# Altium footprint library Embedded.PcbLib: 6 footprints (part 2 of 2)
Each footprint in its own frame and in the unit in brackets; x right, y up, seen from the top. Pads: shape width x height; smd on the part's side, far side on the other; paste and mask are expansions set on the pad; w line width, h text height; cw(c..) or ccw(c..) is an arc to the next point about the centre after c.
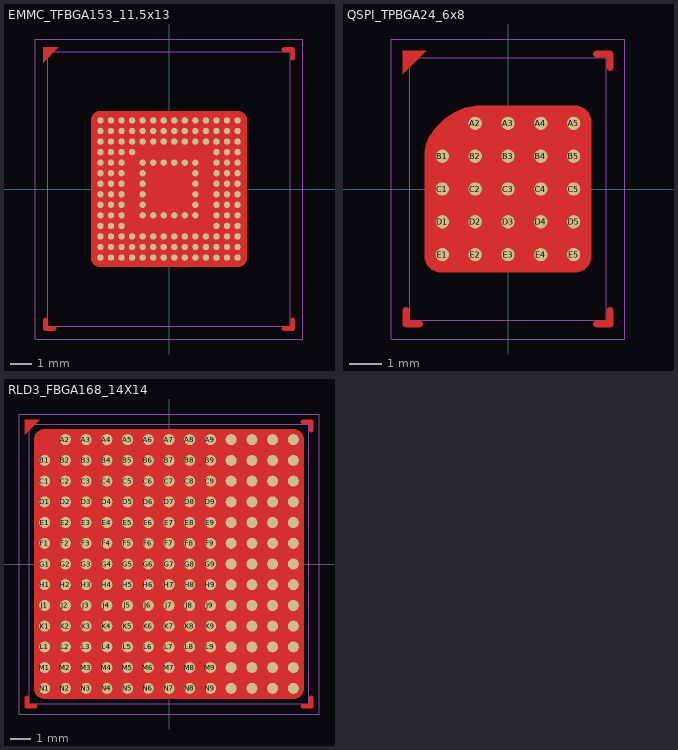
[diagram p1: the footprints below, top view; thin cyan lines are the x and y axes]

## EMMC_TFBGA153_11.5x13 [mil]
pads (153):
  round 12 smd mask+1.5: A1(-127.95,127.95) A2(-108.27,127.95) A3(-88.58,127.95) A4(-68.9,127.95) A5(-49.21,127.95) A6(-29.53,127.95) A7(-9.84,127.95) A8(9.84,127.95) A9(29.53,127.95) A10(49.21,127.95) A11(68.9,127.95) A12(88.58,127.95) A13(108.27,127.95) A14(127.95,127.95) B1(-127.95,108.27) B2(-108.27,108.27) B3(-88.58,108.27) B4(-68.9,108.27) B5(-49.21,108.27) B6(-29.53,108.27) B7(-9.84,108.27) B8(9.84,108.27) B9(29.53,108.27) B10(49.21,108.27) B11(68.9,108.27) B12(88.58,108.27) B13(108.27,108.27) B14(127.95,108.27) C1(-127.95,88.58) C2(-108.27,88.58) C3(-88.58,88.58) C4(-68.9,88.58) C5(-49.21,88.58) C6(-29.53,88.58) C7(-9.84,88.58) C8(9.84,88.58) C9(29.53,88.58) C10(49.21,88.58) C11(68.9,88.58) C12(88.58,88.58) C13(108.27,88.58) C14(127.95,88.58) D1(-127.95,68.9) D2(-108.27,68.9) D3(-88.58,68.9) D4(-68.9,68.9) D12(88.58,68.9) D13(108.27,68.9) D14(127.95,68.9) E1(-127.95,49.21) E2(-108.27,49.21) E3(-88.58,49.21) E5(-49.21,49.21) E6(-29.53,49.21) E7(-9.84,49.21) E8(9.84,49.21) E9(29.53,49.21) E10(49.21,49.21) E12(88.58,49.21) E13(108.27,49.21) E14(127.95,49.21) F1(-127.95,29.53) F2(-108.27,29.53) F3(-88.58,29.53) F5(-49.21,29.53) F10(49.21,29.53) F12(88.58,29.53) F13(108.27,29.53) F14(127.95,29.53) G1(-127.95,9.84) G2(-108.27,9.84) G3(-88.58,9.84) G5(-49.21,9.84) G10(49.21,9.84) G12(88.58,9.84) G13(108.27,9.84) G14(127.95,9.84) H1(-127.95,-9.84) H2(-108.27,-9.84) H3(-88.58,-9.84) H5(-49.21,-9.84) H10(49.21,-9.84) H12(88.58,-9.84) H13(108.27,-9.84) H14(127.95,-9.84) J1(-127.95,-29.53) J2(-108.27,-29.53) J3(-88.58,-29.53) J5(-49.21,-29.53) J10(49.21,-29.53) J12(88.58,-29.53) J13(108.27,-29.53) J14(127.95,-29.53) K1(-127.95,-49.21) K2(-108.27,-49.21) K3(-88.58,-49.21) K5(-49.21,-49.21) K6(-29.53,-49.21) K7(-9.84,-49.21) K8(9.84,-49.21) K9(29.53,-49.21) K10(49.21,-49.21) K12(88.58,-49.21) K13(108.27,-49.21) K14(127.95,-49.21) L1(-127.95,-68.9) L2(-108.27,-68.9) L3(-88.58,-68.9) L12(88.58,-68.9) L13(108.27,-68.9) L14(127.95,-68.9) M1(-127.95,-88.58) M2(-108.27,-88.58) M3(-88.58,-88.58) M4(-68.9,-88.58) M5(-49.21,-88.58) M6(-29.53,-88.58) M7(-9.84,-88.58) M8(9.84,-88.58) M9(29.53,-88.58) M10(49.21,-88.58) M11(68.9,-88.58) M12(88.58,-88.58) M13(108.27,-88.58) M14(127.95,-88.58) N1(-127.95,-108.27) N2(-108.27,-108.27) N3(-88.58,-108.27) N4(-68.9,-108.27) N5(-49.21,-108.27) N6(-29.53,-108.27) N7(-9.84,-108.27) N8(9.84,-108.27) N9(29.53,-108.27) N10(49.21,-108.27) N11(68.9,-108.27) N12(88.58,-108.27) N13(108.27,-108.27) N14(127.95,-108.27) P1(-127.95,-127.95) P2(-108.27,-127.95) P3(-88.58,-127.95) P4(-68.9,-127.95) P5(-49.21,-127.95) P6(-29.53,-127.95) P7(-9.84,-127.95) P8(9.84,-127.95) P9(29.53,-127.95) P10(49.21,-127.95) P11(68.9,-127.95) P12(88.58,-127.95) P13(108.27,-127.95) P14(127.95,-127.95)
Top Layer:
  pour cut-out: -130,145 -132.98,145 -138.5,142.72 -142.72,138.5 -145,132.98 -145,130 -145,-130 -145,-132.98 -142.72,-138.5 -138.5,-142.72 -132.98,-145 -130,-145 130,-145 132.98,-145 138.5,-142.72 142.72,-138.5 145,-132.98 145,-130 145,130 145,132.98 142.72,138.5 138.5,142.72 132.98,145 130,145
  region: -234.84,264.37 -234.84,235.83 -206.3,264.37
  region: 226.84,244.37 226.84,243.57 227.45,242.1 228.58,240.98 230.05,240.37 230.84,240.37 231.64,240.37 233.11,240.98 234.23,242.1 234.84,243.57 234.84,244.37 234.84,260.37 234.84,261.17 234.23,262.64 233.11,263.76 231.64,264.37 230.84,264.37 214.84,264.37 214.05,264.37 212.58,263.76 211.45,262.64 210.84,261.17 210.84,260.37 210.84,259.57 211.45,258.1 212.58,256.98 214.05,256.37 214.84,256.37 224.84,256.37 225.23,256.33 225.95,256.03 226.51,255.48 226.8,254.76 226.84,254.37
  region: -226.84,-244.37 -226.84,-243.57 -227.45,-242.1 -228.58,-240.98 -230.05,-240.37 -230.84,-240.37 -231.64,-240.37 -233.11,-240.98 -234.23,-242.1 -234.84,-243.57 -234.84,-244.37 -234.84,-260.37 -234.84,-261.17 -234.23,-262.64 -233.11,-263.76 -231.64,-264.37 -230.84,-264.37 -214.84,-264.37 -214.05,-264.37 -212.58,-263.76 -211.45,-262.64 -210.84,-261.17 -210.84,-260.37 -210.84,-259.57 -211.45,-258.1 -212.58,-256.98 -214.05,-256.37 -214.84,-256.37 -224.84,-256.37 -225.23,-256.33 -225.95,-256.03 -226.51,-255.48 -226.8,-254.76 -226.84,-254.37
  region: 214.84,-256.37 214.05,-256.37 212.58,-256.98 211.45,-258.1 210.84,-259.57 210.84,-260.37 210.84,-261.17 211.45,-262.64 212.58,-263.76 214.05,-264.37 214.84,-264.37 230.84,-264.37 231.64,-264.37 233.11,-263.76 234.23,-262.64 234.84,-261.17 234.84,-260.37 234.84,-244.37 234.84,-243.57 234.23,-242.1 233.11,-240.98 231.64,-240.37 230.84,-240.37 230.05,-240.37 228.58,-240.98 227.45,-242.1 226.84,-243.57 226.84,-244.37 226.84,-254.37 226.8,-254.76 226.51,-255.48 225.95,-256.03 225.23,-256.33 224.84,-256.37
Top Component Outline:
  lines w1: -250,-280 250,-280 250,280 -250,280 -250,-280
Top 3D Body (Mech16):
  lines w1: -226.38,-255.91 226.38,-255.91 226.38,255.91 -226.38,255.91 -226.38,-255.91
3D body: height 51.18, standoff 7.87, extent -226.38,-255.91 226.38,255.91
3D body: height 11, standoff -1, extent 43.31,-133.76 55.12,-122.12
3D body: height 11, standoff -1, extent 43.31,-114.08 55.12,-102.44
3D body: height 11, standoff -1, extent 43.31,-94.39 55.12,-82.75
3D body: height 11, standoff -1, extent 43.3,122.12 55.12,133.76
3D body: height 11, standoff -1, extent 43.3,102.44 55.12,114.08
3D body: height 11, standoff -1, extent 43.3,82.75 55.12,94.39
3D body: height 11, standoff -1, extent -133.86,122.12 -122.05,133.76
3D body: height 11, standoff -1, extent -133.86,102.44 -122.05,114.08
3D body: height 11, standoff -1, extent -133.86,82.75 -122.05,94.39
3D body: height 11, standoff -1, extent -133.86,23.7 -122.05,35.34
3D body: height 11, standoff -1, extent -133.86,43.38 -122.05,55.02
3D body: height 11, standoff -1, extent -133.86,63.07 -122.05,74.71
3D body: height 11, standoff -1, extent -133.86,4.01 -122.05,15.65
3D body: height 11, standoff -1, extent -133.86,-15.67 -122.05,-4.03
3D body: height 11, standoff -1, extent -133.86,-35.36 -122.05,-23.72
3D body: height 11, standoff -1, extent -133.86,-94.41 -122.05,-82.77
3D body: height 11, standoff -1, extent -133.86,-74.73 -122.05,-63.09
3D body: height 11, standoff -1, extent -133.86,-55.04 -122.05,-43.4
3D body: height 11, standoff -1, extent -133.86,-114.1 -122.05,-102.46
3D body: height 11, standoff -1, extent -133.86,-133.78 -122.05,-122.14
3D body: height 11, standoff -1, extent -114.18,122.12 -102.36,133.76
3D body: height 11, standoff -1, extent -114.18,102.44 -102.36,114.08
3D body: height 11, standoff -1, extent -114.18,82.75 -102.36,94.39
3D body: height 11, standoff -1, extent -114.18,23.7 -102.36,35.34
3D body: height 11, standoff -1, extent -114.18,43.38 -102.36,55.02
3D body: height 11, standoff -1, extent -114.18,63.07 -102.36,74.71
3D body: height 11, standoff -1, extent -114.18,4.01 -102.36,15.65
3D body: height 11, standoff -1, extent -114.18,-15.67 -102.36,-4.03
3D body: height 11, standoff -1, extent -114.18,-35.36 -102.36,-23.72
3D body: height 11, standoff -1, extent -114.18,-94.41 -102.36,-82.77
3D body: height 11, standoff -1, extent -114.18,-74.73 -102.36,-63.09
3D body: height 11, standoff -1, extent -114.18,-55.04 -102.36,-43.4
3D body: height 11, standoff -1, extent -114.18,-114.1 -102.36,-102.46
3D body: height 11, standoff -1, extent -114.18,-133.78 -102.36,-122.14
3D body: height 11, standoff -1, extent -94.49,122.12 -82.68,133.76
3D body: height 11, standoff -1, extent -94.49,102.44 -82.68,114.08
3D body: height 11, standoff -1, extent -94.49,82.75 -82.68,94.39
3D body: height 11, standoff -1, extent -94.49,23.7 -82.68,35.34
3D body: height 11, standoff -1, extent -94.49,43.38 -82.68,55.02
3D body: height 11, standoff -1, extent -94.49,63.07 -82.68,74.71
3D body: height 11, standoff -1, extent -94.49,4.01 -82.68,15.65
3D body: height 11, standoff -1, extent -94.49,-15.67 -82.68,-4.03
3D body: height 11, standoff -1, extent -94.49,-35.36 -82.68,-23.72
3D body: height 11, standoff -1, extent -94.49,-94.41 -82.68,-82.77
3D body: height 11, standoff -1, extent -94.49,-74.73 -82.68,-63.09
3D body: height 11, standoff -1, extent -94.49,-55.04 -82.68,-43.4
3D body: height 11, standoff -1, extent -94.49,-114.1 -82.68,-102.46
3D body: height 11, standoff -1, extent -94.49,-133.78 -82.68,-122.14
3D body: height 11, standoff -1, extent -74.81,122.12 -62.99,133.76
3D body: height 11, standoff -1, extent -74.81,102.44 -62.99,114.08
3D body: height 11, standoff -1, extent -74.81,82.75 -62.99,94.39
3D body: height 11, standoff -1, extent -74.81,63.07 -62.99,74.71
3D body: height 11, standoff -1, extent -74.81,-94.41 -62.99,-82.77
3D body: height 11, standoff -1, extent -74.81,-114.1 -62.99,-102.46
3D body: height 11, standoff -1, extent -74.81,-133.78 -62.99,-122.14
3D body: height 11, standoff -1, extent -55.12,122.12 -43.31,133.76
3D body: height 11, standoff -1, extent -55.12,102.44 -43.31,114.08
3D body: height 11, standoff -1, extent -55.12,82.75 -43.31,94.39
3D body: height 11, standoff -1, extent -55.12,23.7 -43.31,35.34
3D body: height 11, standoff -1, extent -55.12,43.38 -43.31,55.02
3D body: height 11, standoff -1, extent -55.12,4.01 -43.31,15.65
3D body: height 11, standoff -1, extent -55.12,-15.67 -43.31,-4.03
3D body: height 11, standoff -1, extent -55.12,-35.36 -43.31,-23.72
3D body: height 11, standoff -1, extent -55.12,-94.41 -43.31,-82.77
3D body: height 11, standoff -1, extent -55.12,-55.04 -43.31,-43.4
3D body: height 11, standoff -1, extent -55.12,-114.1 -43.31,-102.46
3D body: height 11, standoff -1, extent -55.12,-133.78 -43.31,-122.14
3D body: height 11, standoff -1, extent -35.44,122.12 -23.62,133.76
3D body: height 11, standoff -1, extent -35.44,102.44 -23.62,114.08
3D body: height 11, standoff -1, extent -35.44,82.75 -23.62,94.39
3D body: height 11, standoff -1, extent -35.44,43.38 -23.62,55.02
3D body: height 11, standoff -1, extent -35.44,-94.41 -23.62,-82.77
3D body: height 11, standoff -1, extent -35.44,-55.04 -23.62,-43.4
3D body: height 11, standoff -1, extent -35.44,-114.1 -23.62,-102.46
3D body: height 11, standoff -1, extent -35.44,-133.78 -23.62,-122.14
3D body: height 11, standoff -1, extent -15.75,122.12 -3.94,133.76
3D body: height 11, standoff -1, extent -15.75,102.44 -3.94,114.08
3D body: height 11, standoff -1, extent -15.75,82.75 -3.94,94.39
3D body: height 11, standoff -1, extent -15.75,43.38 -3.94,55.02
3D body: height 11, standoff -1, extent -15.75,-94.41 -3.94,-82.77
3D body: height 11, standoff -1, extent -15.75,-55.04 -3.94,-43.4
3D body: height 11, standoff -1, extent -15.75,-114.1 -3.94,-102.46
3D body: height 11, standoff -1, extent -15.75,-133.78 -3.94,-122.14
3D body: height 11, standoff -1, extent 3.93,122.12 15.75,133.76
3D body: height 11, standoff -1, extent 3.93,102.44 15.75,114.08
3D body: height 11, standoff -1, extent 3.93,82.75 15.75,94.39
3D body: height 11, standoff -1, extent 3.93,43.38 15.75,55.02
3D body: height 11, standoff -1, extent 3.93,-94.41 15.75,-82.77
3D body: height 11, standoff -1, extent 3.93,-55.04 15.75,-43.4
3D body: height 11, standoff -1, extent 3.93,-114.1 15.75,-102.46
3D body: height 11, standoff -1, extent 3.93,-133.78 15.75,-122.14
3D body: height 11, standoff -1, extent 23.62,122.12 35.43,133.76
3D body: height 11, standoff -1, extent 23.62,102.44 35.43,114.08
3D body: height 11, standoff -1, extent 23.62,82.75 35.43,94.39
3D body: height 11, standoff -1, extent 23.62,43.38 35.43,55.02
3D body: height 11, standoff -1, extent 23.62,-94.41 35.43,-82.77
3D body: height 11, standoff -1, extent 23.62,-55.04 35.43,-43.4
3D body: height 11, standoff -1, extent 23.62,-114.1 35.43,-102.46
3D body: height 11, standoff -1, extent 23.62,-133.78 35.43,-122.14
3D body: height 11, standoff -1, extent 62.99,122.12 74.8,133.76
3D body: height 11, standoff -1, extent 62.99,102.44 74.8,114.08
3D body: height 11, standoff -1, extent 62.99,82.75 74.8,94.39
3D body: height 11, standoff -1, extent 62.99,-94.41 74.8,-82.77
3D body: height 11, standoff -1, extent 62.99,-114.1 74.8,-102.46
3D body: height 11, standoff -1, extent 62.99,-133.78 74.8,-122.14
3D body: height 11, standoff -1, extent 82.67,122.12 94.49,133.76
3D body: height 11, standoff -1, extent 82.67,102.44 94.49,114.08
3D body: height 11, standoff -1, extent 82.67,82.75 94.49,94.39
3D body: height 11, standoff -1, extent 82.67,23.7 94.49,35.34
3D body: height 11, standoff -1, extent 82.67,43.38 94.49,55.02
3D body: height 11, standoff -1, extent 82.67,63.07 94.49,74.71
3D body: height 11, standoff -1, extent 82.67,4.01 94.49,15.65
3D body: height 11, standoff -1, extent 82.67,-15.67 94.49,-4.03
3D body: height 11, standoff -1, extent 82.67,-35.36 94.49,-23.72
3D body: height 11, standoff -1, extent 82.67,-94.41 94.49,-82.77
3D body: height 11, standoff -1, extent 82.67,-74.73 94.49,-63.09
3D body: height 11, standoff -1, extent 82.67,-55.04 94.49,-43.4
3D body: height 11, standoff -1, extent 82.67,-114.1 94.49,-102.46
3D body: height 11, standoff -1, extent 82.67,-133.78 94.49,-122.14
3D body: height 11, standoff -1, extent 102.36,122.12 114.17,133.76
3D body: height 11, standoff -1, extent 102.36,102.44 114.17,114.08
3D body: height 11, standoff -1, extent 102.36,82.75 114.17,94.39
3D body: height 11, standoff -1, extent 102.36,23.7 114.17,35.34
3D body: height 11, standoff -1, extent 102.36,43.38 114.17,55.02
3D body: height 11, standoff -1, extent 102.36,63.07 114.17,74.71
3D body: height 11, standoff -1, extent 102.36,4.01 114.17,15.65
3D body: height 11, standoff -1, extent 102.36,-15.67 114.17,-4.03
3D body: height 11, standoff -1, extent 102.36,-35.36 114.17,-23.72
3D body: height 11, standoff -1, extent 102.36,-94.41 114.17,-82.77
3D body: height 11, standoff -1, extent 102.36,-74.73 114.17,-63.09
3D body: height 11, standoff -1, extent 102.36,-55.04 114.17,-43.4
3D body: height 11, standoff -1, extent 102.36,-114.1 114.17,-102.46
3D body: height 11, standoff -1, extent 102.36,-133.78 114.17,-122.14
3D body: height 11, standoff -1, extent 122.04,-133.78 133.86,-122.14
3D body: height 11, standoff -1, extent 122.04,-114.1 133.86,-102.46
3D body: height 11, standoff -1, extent 122.04,-55.04 133.86,-43.4
3D body: height 11, standoff -1, extent 122.04,-74.73 133.86,-63.09
3D body: height 11, standoff -1, extent 122.04,-94.41 133.86,-82.77
3D body: height 11, standoff -1, extent 122.04,-35.36 133.86,-23.72
3D body: height 11, standoff -1, extent 122.04,-15.67 133.86,-4.03
3D body: height 11, standoff -1, extent 122.04,4.01 133.86,15.65
3D body: height 11, standoff -1, extent 122.04,63.07 133.86,74.71
3D body: height 11, standoff -1, extent 122.04,43.38 133.86,55.02
3D body: height 11, standoff -1, extent 122.04,23.7 133.86,35.34
3D body: height 11, standoff -1, extent 122.04,82.75 133.86,94.39
3D body: height 11, standoff -1, extent 122.04,102.44 133.86,114.08
3D body: height 11, standoff -1, extent 122.04,122.12 133.86,133.76
3D body: height 11, standoff -1, extent 43.3,43.38 55.12,55.02
3D body: height 11, standoff -1, extent 43.3,23.7 55.12,35.34
3D body: height 11, standoff -1, extent 43.3,4.01 55.12,15.65
3D body: height 11, standoff -1, extent 43.3,-55.04 55.12,-43.4
3D body: height 11, standoff -1, extent 43.3,-35.36 55.12,-23.72
3D body: height 11, standoff -1, extent 43.3,-15.67 55.12,-4.03

## QSPI_TPBGA24_6x8 [mil]
pads (24):
  round 16 smd mask+2: A2(-39.37,78.74) A3(0,78.74) A4(39.37,78.74) A5(78.74,78.74) B1(-78.74,39.37) B2(-39.37,39.37) B3(0,39.37) B4(39.37,39.37) B5(78.74,39.37) C1(-78.74,0) C2(-39.37,0) C3(0,0) C4(39.37,0) C5(78.74,0) D1(-78.74,-39.37) D2(-39.37,-39.37) D3(0,-39.37) D4(39.37,-39.37) D5(78.74,-39.37) E1(-78.74,-78.74) E2(-39.37,-78.74) E3(0,-78.74) E4(39.37,-78.74) E5(78.74,-78.74)
Top Layer:
  region: -126.57,165.94 -126.57,137.4 -98.03,165.95
  pour cut-out: 80,100 83.98,100 91.33,96.96 96.96,91.33 100,83.98 100,80 100,-80 100,-83.98 96.96,-91.33 91.33,-96.96 83.98,-100 80,-100 -80,-100 -83.98,-100 -91.33,-96.96 -96.96,-91.33 -100,-83.98 -100,-80 -100,40 -100,44.76 -98.14,54.08 -94.5,62.87 -89.22,70.78 -85.86,74.14 -80,80 -75.24,84.76 -64.06,92.23 -51.63,97.38 -38.44,100 -31.72,100
  region: 118.57,145.94 118.57,145.15 119.18,143.68 120.31,142.55 121.78,141.94 122.57,141.94 123.37,141.94 124.84,142.55 125.97,143.68 126.57,145.15 126.57,145.94 126.57,161.94 126.57,162.74 125.97,164.21 124.84,165.34 123.37,165.94 122.57,165.94 106.57,165.94 105.78,165.94 104.31,165.34 103.18,164.21 102.57,162.74 102.57,161.94 102.57,161.15 103.18,159.68 104.31,158.55 105.78,157.94 106.57,157.94 116.57,157.94 116.96,157.91 117.69,157.61 118.24,157.06 118.54,156.34 118.57,155.94
  region: 106.58,-157.94 105.78,-157.94 104.31,-158.55 103.18,-159.68 102.58,-161.15 102.58,-161.94 102.58,-162.74 103.18,-164.21 104.31,-165.34 105.78,-165.94 106.58,-165.94 122.58,-165.94 123.37,-165.94 124.84,-165.34 125.97,-164.21 126.58,-162.74 126.58,-161.94 126.58,-145.94 126.58,-145.15 125.97,-143.68 124.84,-142.55 123.37,-141.94 122.58,-141.94 121.78,-141.94 120.31,-142.55 119.18,-143.68 118.58,-145.15 118.58,-145.94 118.58,-155.94 118.54,-156.33 118.24,-157.06 117.69,-157.61 116.97,-157.91 116.58,-157.94
  region: -118.57,-145.94 -118.57,-145.15 -119.18,-143.68 -120.31,-142.55 -121.78,-141.94 -122.57,-141.94 -123.37,-141.94 -124.84,-142.55 -125.97,-143.68 -126.57,-145.15 -126.57,-145.94 -126.57,-161.94 -126.57,-162.74 -125.97,-164.21 -124.84,-165.34 -123.37,-165.94 -122.57,-165.94 -106.57,-165.94 -105.78,-165.94 -104.31,-165.34 -103.18,-164.21 -102.57,-162.74 -102.57,-161.94 -102.57,-161.15 -103.18,-159.68 -104.31,-158.55 -105.78,-157.94 -106.57,-157.94 -116.57,-157.94 -116.96,-157.91 -117.69,-157.61 -118.24,-157.06 -118.54,-156.33 -118.57,-155.94
Top Component Outline:
  lines w1: -140,-180 140,-180 140,180 -140,180 -140,-180
Top 3D Body (Mech16):
  lines w1: -118.11,-157.48 118.11,-157.48 118.11,157.48 -118.11,157.48 -118.11,-157.48
3D body: height 43.31, standoff 11.81, extent -118.11,-157.48 118.11,157.48
3D body: height 13.78, standoff -1.97, extent 70.98,-86.74 86.49,-71.02
3D body: height 13.78, standoff -1.97, extent 70.98,-47.37 86.49,-31.65
3D body: height 13.78, standoff -1.97, extent 70.98,-8 86.49,7.72
3D body: height 13.78, standoff -1.97, extent 70.98,31.37 86.49,47.09
3D body: height 13.78, standoff -1.97, extent 70.98,70.74 86.49,86.46
3D body: height 13.78, standoff -1.97, extent 31.61,70.74 47.12,86.46
3D body: height 13.78, standoff -1.97, extent 31.61,31.37 47.12,47.09
3D body: height 13.78, standoff -1.97, extent 31.61,-8 47.12,7.72
3D body: height 13.78, standoff -1.97, extent 31.61,-47.37 47.12,-31.65
3D body: height 13.78, standoff -1.97, extent 31.61,-86.74 47.12,-71.02
3D body: height 13.78, standoff -1.97, extent -7.76,70.74 7.75,86.46
3D body: height 13.78, standoff -1.97, extent -7.76,31.37 7.75,47.09
3D body: height 13.78, standoff -1.97, extent -7.76,-8 7.75,7.72
3D body: height 13.78, standoff -1.97, extent -7.76,-47.37 7.75,-31.65
3D body: height 13.78, standoff -1.97, extent -7.76,-86.74 7.75,-71.02
3D body: height 13.78, standoff -1.97, extent -47.13,70.74 -31.62,86.46
3D body: height 13.78, standoff -1.97, extent -47.13,31.37 -31.62,47.09
3D body: height 13.78, standoff -1.97, extent -47.13,-8 -31.62,7.72
3D body: height 13.78, standoff -1.97, extent -47.13,-47.37 -31.62,-31.65
3D body: height 13.78, standoff -1.97, extent -47.13,-86.74 -31.62,-71.02
3D body: height 13.78, standoff -1.97, extent -86.5,31.37 -70.99,47.09
3D body: height 13.78, standoff -1.97, extent -86.5,-8 -70.99,7.72
3D body: height 13.78, standoff -1.97, extent -86.5,-47.37 -70.99,-31.65
3D body: height 13.78, standoff -1.97, extent -86.5,-86.74 -70.99,-71.02

## RLD3_FBGA168_14X14 [mil] "RLDRAM3"
height 43.31
pads (168):
  round 21 smd mask+2: A2(-196.85,236.22) A3(-157.48,236.22) A4(-118.11,236.22) A5(-78.74,236.22) A6(-39.37,236.22) A7(0,236.22) A8(39.37,236.22) A9(78.74,236.22) A10(118.11,236.22) A11(157.48,236.22) A12(196.85,236.22) A13(236.22,236.22) B1(-236.22,196.85) B2(-196.85,196.85) B3(-157.48,196.85) B4(-118.11,196.85) B5(-78.74,196.85) B6(-39.37,196.85) B7(0,196.85) B8(39.37,196.85) B9(78.74,196.85) B10(118.11,196.85) B11(157.48,196.85) B12(196.85,196.85) B13(236.22,196.85) C1(-236.22,157.48) C2(-196.85,157.48) C3(-157.48,157.48) C4(-118.11,157.48) C5(-78.74,157.48) C6(-39.37,157.48) C7(0,157.48) C8(39.37,157.48) C9(78.74,157.48) C10(118.11,157.48) C11(157.48,157.48) C12(196.85,157.48) C13(236.22,157.48) D1(-236.22,118.11) D2(-196.85,118.11) D3(-157.48,118.11) D4(-118.11,118.11) D5(-78.74,118.11) D6(-39.37,118.11) D7(0,118.11) D8(39.37,118.11) D9(78.74,118.11) D10(118.11,118.11) D11(157.48,118.11) D12(196.85,118.11) D13(236.22,118.11) E1(-236.22,78.74) E2(-196.85,78.74) E3(-157.48,78.74) E4(-118.11,78.74) E5(-78.74,78.74) E6(-39.37,78.74) E7(0,78.74) E8(39.37,78.74) E9(78.74,78.74) E10(118.11,78.74) E11(157.48,78.74) E12(196.85,78.74) E13(236.22,78.74) F1(-236.22,39.37) F2(-196.85,39.37) F3(-157.48,39.37) F4(-118.11,39.37) F5(-78.74,39.37) F6(-39.37,39.37) F7(0,39.37) F8(39.37,39.37) F9(78.74,39.37) F10(118.11,39.37) F11(157.48,39.37) F12(196.85,39.37) F13(236.22,39.37) G1(-236.22,0) G2(-196.85,0) G3(-157.48,0) G4(-118.11,0) G5(-78.74,0) G6(-39.37,0) G7(0,0) G8(39.37,0) G9(78.74,0) G10(118.11,0) G11(157.48,0) G12(196.85,0) G13(236.22,0) H1(-236.22,-39.37) H2(-196.85,-39.37) H3(-157.48,-39.37) H4(-118.11,-39.37) H5(-78.74,-39.37) H6(-39.37,-39.37) H7(0,-39.37) H8(39.37,-39.37) H9(78.74,-39.37) H10(118.11,-39.37) H11(157.48,-39.37) H12(196.85,-39.37) H13(236.22,-39.37) J1(-236.22,-78.74) J2(-196.85,-78.74) J3(-157.48,-78.74) J4(-118.11,-78.74) J5(-78.74,-78.74) J6(-39.37,-78.74) J7(0,-78.74) J8(39.37,-78.74) J9(78.74,-78.74) J10(118.11,-78.74) J11(157.48,-78.74) J12(196.85,-78.74) J13(236.22,-78.74) K1(-236.22,-118.11) K2(-196.85,-118.11) K3(-157.48,-118.11) K4(-118.11,-118.11) K5(-78.74,-118.11) K6(-39.37,-118.11) K7(0,-118.11) K8(39.37,-118.11) K9(78.74,-118.11) K10(118.11,-118.11) K11(157.48,-118.11) K12(196.85,-118.11) K13(236.22,-118.11) L1(-236.22,-157.48) L2(-196.85,-157.48) L3(-157.48,-157.48) L4(-118.11,-157.48) L5(-78.74,-157.48) L6(-39.37,-157.48) L7(0,-157.48) L8(39.37,-157.48) L9(78.74,-157.48) L10(118.11,-157.48) L11(157.48,-157.48) L12(196.85,-157.48) L13(236.22,-157.48) M1(-236.22,-196.85) M2(-196.85,-196.85) M3(-157.48,-196.85) M4(-118.11,-196.85) M5(-78.74,-196.85) M6(-39.37,-196.85) M7(0,-196.85) M8(39.37,-196.85) M9(78.74,-196.85) M10(118.11,-196.85) M11(157.48,-196.85) M12(196.85,-196.85) M13(236.22,-196.85) N1(-236.22,-236.22) N2(-196.85,-236.22) N3(-157.48,-236.22) N4(-118.11,-236.22) N5(-78.74,-236.22) N6(-39.37,-236.22) N7(0,-236.22) N8(39.37,-236.22) N9(78.74,-236.22) N10(118.11,-236.22) N11(157.48,-236.22) N12(196.85,-236.22) N13(236.22,-236.22)
Top Layer:
  region: 266.21,254.21 266.21,253.42 266.82,251.95 267.95,250.82 269.42,250.21 270.21,250.21 271.01,250.21 272.48,250.82 273.6,251.95 274.21,253.42 274.21,254.21 274.21,270.21 274.21,271.01 273.6,272.48 272.48,273.6 271.01,274.21 270.21,274.21 254.21,274.21 253.42,274.21 251.95,273.6 250.82,272.48 250.21,271.01 250.21,270.21 250.21,269.42 250.82,267.95 251.95,266.82 253.42,266.21 254.21,266.21 264.21,266.21 264.6,266.17 265.32,265.88 265.87,265.32 266.17,264.6 266.21,264.21
  region: 254.21,-266.21 253.42,-266.21 251.95,-266.82 250.82,-267.95 250.21,-269.42 250.21,-270.21 250.21,-271.01 250.82,-272.48 251.95,-273.6 253.42,-274.21 254.21,-274.21 270.21,-274.21 271.01,-274.21 272.48,-273.6 273.6,-272.48 274.21,-271.01 274.21,-270.21 274.21,-254.21 274.21,-253.42 273.6,-251.95 272.48,-250.82 271.01,-250.21 270.21,-250.21 269.42,-250.21 267.95,-250.82 266.82,-251.95 266.21,-253.42 266.21,-254.21 266.21,-264.21 266.17,-264.6 265.88,-265.32 265.32,-265.87 264.6,-266.17 264.21,-266.21
  region: -266.21,-254.21 -266.21,-253.42 -266.82,-251.95 -267.95,-250.82 -269.42,-250.21 -270.21,-250.21 -271.01,-250.21 -272.48,-250.82 -273.6,-251.95 -274.21,-253.42 -274.21,-254.21 -274.21,-270.21 -274.21,-271.01 -273.6,-272.48 -272.48,-273.6 -271.01,-274.21 -270.21,-274.21 -254.21,-274.21 -253.42,-274.21 -251.95,-273.6 -250.82,-272.48 -250.21,-271.01 -250.21,-270.21 -250.21,-269.42 -250.82,-267.95 -251.95,-266.82 -253.42,-266.21 -254.21,-266.21 -264.21,-266.21 -264.6,-266.17 -265.32,-265.88 -265.87,-265.32 -266.17,-264.6 -266.21,-264.21
  region: -274.21,274.21 -274.21,245.67 -245.67,274.21
  pour cut-out: 236.22,255.91 240.14,255.91 247.37,252.91 252.91,247.37 255.91,240.14 255.91,236.22 255.91,-236.22 255.91,-240.14 252.91,-247.37 247.37,-252.91 240.14,-255.91 236.22,-255.91 -236.22,-255.91 -240.14,-255.91 -247.37,-252.91 -252.91,-247.37 -255.91,-240.14 -255.91,-236.22 -255.91,236.22 -255.91,240.14 -252.91,247.37 -247.37,252.91 -240.14,255.91 -236.22,255.91
Top Component Outline:
  lines w1: -285,-285 -285,285 285,285 285,-285 -285,-285
Top 3D Body (Mech16):
  lines w1: -265.75,-265.75 -265.75,265.75 265.75,265.75 265.75,-265.75 -265.75,-265.75
3D body: height 43.4, standoff 43, extent -247.95,228.07 -228.03,248.04
3D body: height 43.31, standoff 11.81, extent -265.75,-265.75 265.75,265.75
3D body: height 21.81, standoff -1.81, extent -247.95,-51.18 -224.5,-27.55
3D body: height 21.81, standoff -1.81, extent -247.95,-90.55 -224.5,-66.92
3D body: height 21.81, standoff -1.81, extent -247.95,-129.92 -224.5,-106.29
3D body: height 21.81, standoff -1.81, extent -247.95,-169.29 -224.5,-145.66
3D body: height 21.81, standoff -1.81, extent -247.95,-208.66 -224.5,-185.03
3D body: height 21.81, standoff -1.81, extent -247.95,-248.03 -224.5,-224.4
3D body: height 21.81, standoff -1.81, extent -247.95,-11.81 -224.5,11.82
3D body: height 21.81, standoff -1.81, extent -247.95,27.56 -224.5,51.19
3D body: height 21.81, standoff -1.81, extent -247.95,66.93 -224.5,90.56
3D body: height 21.81, standoff -1.81, extent -247.95,106.3 -224.5,129.93
3D body: height 21.81, standoff -1.81, extent -247.95,145.67 -224.5,169.3
3D body: height 21.81, standoff -1.81, extent -247.95,185.04 -224.5,208.67
3D body: height 21.81, standoff -1.81, extent -208.58,224.41 -185.13,248.04
3D body: height 21.81, standoff -1.81, extent -208.58,185.04 -185.13,208.67
3D body: height 21.81, standoff -1.81, extent -208.58,145.67 -185.13,169.3
3D body: height 21.81, standoff -1.81, extent -208.58,106.3 -185.13,129.93
3D body: height 21.81, standoff -1.81, extent -208.58,66.93 -185.13,90.56
3D body: height 21.81, standoff -1.81, extent -208.58,27.56 -185.13,51.19
3D body: height 21.81, standoff -1.81, extent -208.58,-11.81 -185.13,11.82
3D body: height 21.81, standoff -1.81, extent -208.58,-248.03 -185.13,-224.4
3D body: height 21.81, standoff -1.81, extent -208.58,-208.66 -185.13,-185.03
3D body: height 21.81, standoff -1.81, extent -208.58,-169.29 -185.13,-145.66
3D body: height 21.81, standoff -1.81, extent -208.58,-129.92 -185.13,-106.29
3D body: height 21.81, standoff -1.81, extent -208.58,-90.55 -185.13,-66.92
3D body: height 21.81, standoff -1.81, extent -208.58,-51.18 -185.13,-27.55
3D body: height 21.81, standoff -1.81, extent -169.21,224.41 -145.76,248.04
3D body: height 21.81, standoff -1.81, extent -169.21,185.04 -145.76,208.67
3D body: height 21.81, standoff -1.81, extent -169.21,145.67 -145.76,169.3
3D body: height 21.81, standoff -1.81, extent -169.21,106.3 -145.76,129.93
3D body: height 21.81, standoff -1.81, extent -169.21,66.93 -145.76,90.56
3D body: height 21.81, standoff -1.81, extent -169.21,27.56 -145.76,51.19
3D body: height 21.81, standoff -1.81, extent -169.21,-11.81 -145.76,11.82
3D body: height 21.81, standoff -1.81, extent -169.21,-248.03 -145.76,-224.4
3D body: height 21.81, standoff -1.81, extent -169.21,-208.66 -145.76,-185.03
3D body: height 21.81, standoff -1.81, extent -169.21,-169.29 -145.76,-145.66
3D body: height 21.81, standoff -1.81, extent -169.21,-129.92 -145.76,-106.29
3D body: height 21.81, standoff -1.81, extent -169.21,-90.55 -145.76,-66.92
3D body: height 21.81, standoff -1.81, extent -169.21,-51.18 -145.76,-27.55
3D body: height 21.81, standoff -1.81, extent -129.84,224.41 -106.39,248.04
3D body: height 21.81, standoff -1.81, extent -129.84,185.04 -106.39,208.67
3D body: height 21.81, standoff -1.81, extent -129.84,145.67 -106.39,169.3
3D body: height 21.81, standoff -1.81, extent -129.84,106.3 -106.39,129.93
3D body: height 21.81, standoff -1.81, extent -129.84,66.93 -106.39,90.56
3D body: height 21.81, standoff -1.81, extent -129.84,27.56 -106.39,51.19
3D body: height 21.81, standoff -1.81, extent -129.84,-11.81 -106.39,11.82
3D body: height 21.81, standoff -1.81, extent -129.84,-248.03 -106.39,-224.4
3D body: height 21.81, standoff -1.81, extent -129.84,-208.66 -106.39,-185.03
3D body: height 21.81, standoff -1.81, extent -129.84,-169.29 -106.39,-145.66
3D body: height 21.81, standoff -1.81, extent -129.84,-129.92 -106.39,-106.29
3D body: height 21.81, standoff -1.81, extent -129.84,-90.55 -106.39,-66.92
3D body: height 21.81, standoff -1.81, extent -129.84,-51.18 -106.39,-27.55
3D body: height 21.81, standoff -1.81, extent -90.46,224.41 -67.02,248.04
3D body: height 21.81, standoff -1.81, extent -90.46,185.04 -67.02,208.67
3D body: height 21.81, standoff -1.81, extent -90.46,145.67 -67.02,169.3
3D body: height 21.81, standoff -1.81, extent -90.46,106.3 -67.02,129.93
3D body: height 21.81, standoff -1.81, extent -90.46,66.93 -67.02,90.56
3D body: height 21.81, standoff -1.81, extent -90.46,27.56 -67.02,51.19
3D body: height 21.81, standoff -1.81, extent -90.46,-11.81 -67.02,11.82
3D body: height 21.81, standoff -1.81, extent -90.46,-248.03 -67.02,-224.4
3D body: height 21.81, standoff -1.81, extent -90.46,-208.66 -67.02,-185.03
3D body: height 21.81, standoff -1.81, extent -90.46,-169.29 -67.02,-145.66
3D body: height 21.81, standoff -1.81, extent -90.46,-129.92 -67.02,-106.29
3D body: height 21.81, standoff -1.81, extent -90.46,-90.55 -67.02,-66.92
3D body: height 21.81, standoff -1.81, extent -90.46,-51.18 -67.02,-27.55
3D body: height 21.81, standoff -1.81, extent 106.39,-51.18 129.84,-27.55
3D body: height 21.81, standoff -1.81, extent 106.39,-90.55 129.84,-66.92
3D body: height 21.81, standoff -1.81, extent 106.39,-129.92 129.84,-106.29
3D body: height 21.81, standoff -1.81, extent 106.39,-169.29 129.84,-145.66
3D body: height 21.81, standoff -1.81, extent 106.39,-208.66 129.84,-185.03
3D body: height 21.81, standoff -1.81, extent 106.39,-248.03 129.84,-224.4
3D body: height 21.81, standoff -1.81, extent 106.39,-11.81 129.84,11.82
3D body: height 21.81, standoff -1.81, extent 106.39,27.56 129.84,51.19
3D body: height 21.81, standoff -1.81, extent 106.39,66.93 129.84,90.56
3D body: height 21.81, standoff -1.81, extent 106.39,106.3 129.84,129.93
3D body: height 21.81, standoff -1.81, extent 106.39,145.67 129.84,169.3
3D body: height 21.81, standoff -1.81, extent 106.39,185.04 129.84,208.67
3D body: height 21.81, standoff -1.81, extent 106.39,224.41 129.84,248.04
3D body: height 21.81, standoff -1.81, extent 67.02,-51.18 90.47,-27.55
3D body: height 21.81, standoff -1.81, extent 67.02,-90.55 90.47,-66.92
3D body: height 21.81, standoff -1.81, extent 67.02,-129.92 90.47,-106.29
3D body: height 21.81, standoff -1.81, extent 67.02,-169.29 90.47,-145.66
3D body: height 21.81, standoff -1.81, extent 67.02,-208.66 90.47,-185.03
3D body: height 21.81, standoff -1.81, extent 67.02,-248.03 90.47,-224.4
3D body: height 21.81, standoff -1.81, extent 67.02,-11.81 90.47,11.82
3D body: height 21.81, standoff -1.81, extent 67.02,27.56 90.47,51.19
3D body: height 21.81, standoff -1.81, extent 67.02,66.93 90.47,90.56
3D body: height 21.81, standoff -1.81, extent 67.02,106.3 90.47,129.93
3D body: height 21.81, standoff -1.81, extent 67.02,145.67 90.47,169.3
3D body: height 21.81, standoff -1.81, extent 67.02,185.04 90.47,208.67
3D body: height 21.81, standoff -1.81, extent 67.02,224.41 90.47,248.04
3D body: height 21.81, standoff -1.81, extent 27.65,-51.18 51.09,-27.55
3D body: height 21.81, standoff -1.81, extent 27.65,-90.55 51.09,-66.92
3D body: height 21.81, standoff -1.81, extent 27.65,-129.92 51.09,-106.29
3D body: height 21.81, standoff -1.81, extent 27.65,-169.29 51.09,-145.66
3D body: height 21.81, standoff -1.81, extent 27.65,-208.66 51.09,-185.03
3D body: height 21.81, standoff -1.81, extent 27.65,-248.03 51.09,-224.4
3D body: height 21.81, standoff -1.81, extent 27.65,-11.81 51.09,11.82
3D body: height 21.81, standoff -1.81, extent 27.65,27.56 51.09,51.19
3D body: height 21.81, standoff -1.81, extent 27.65,66.93 51.09,90.56
3D body: height 21.81, standoff -1.81, extent 27.65,106.3 51.09,129.93
3D body: height 21.81, standoff -1.81, extent 27.65,145.67 51.09,169.3
3D body: height 21.81, standoff -1.81, extent 27.65,185.04 51.09,208.67
3D body: height 21.81, standoff -1.81, extent 27.65,224.41 51.09,248.04
3D body: height 21.81, standoff -1.81, extent -11.72,-51.18 11.72,-27.55
3D body: height 21.81, standoff -1.81, extent -11.72,-90.55 11.72,-66.92
3D body: height 21.81, standoff -1.81, extent -11.72,-129.92 11.72,-106.29
3D body: height 21.81, standoff -1.81, extent -11.72,-169.29 11.72,-145.66
3D body: height 21.81, standoff -1.81, extent -11.72,-208.66 11.72,-185.03
3D body: height 21.81, standoff -1.81, extent -11.72,-248.03 11.72,-224.4
3D body: height 21.81, standoff -1.81, extent -11.72,-11.81 11.72,11.82
3D body: height 21.81, standoff -1.81, extent -11.72,27.56 11.72,51.19
3D body: height 21.81, standoff -1.81, extent -11.72,66.93 11.72,90.56
3D body: height 21.81, standoff -1.81, extent -11.72,106.3 11.72,129.93
3D body: height 21.81, standoff -1.81, extent -11.72,145.67 11.72,169.3
3D body: height 21.81, standoff -1.81, extent -11.72,185.04 11.72,208.67
3D body: height 21.81, standoff -1.81, extent -11.72,224.41 11.72,248.04
3D body: height 21.81, standoff -1.81, extent -51.09,224.41 -27.65,248.04
3D body: height 21.81, standoff -1.81, extent -51.09,185.04 -27.65,208.67
3D body: height 21.81, standoff -1.81, extent -51.09,145.67 -27.65,169.3
3D body: height 21.81, standoff -1.81, extent -51.09,106.3 -27.65,129.93
3D body: height 21.81, standoff -1.81, extent -51.09,66.93 -27.65,90.56
3D body: height 21.81, standoff -1.81, extent -51.09,27.56 -27.65,51.19
3D body: height 21.81, standoff -1.81, extent -51.09,-11.81 -27.65,11.82
3D body: height 21.81, standoff -1.81, extent -51.09,-248.03 -27.65,-224.4
3D body: height 21.81, standoff -1.81, extent -51.09,-208.66 -27.65,-185.03
3D body: height 21.81, standoff -1.81, extent -51.09,-169.29 -27.65,-145.66
3D body: height 21.81, standoff -1.81, extent -51.09,-129.92 -27.65,-106.29
3D body: height 21.81, standoff -1.81, extent -51.09,-90.55 -27.65,-66.92
3D body: height 21.81, standoff -1.81, extent -51.09,-51.18 -27.65,-27.55
3D body: height 21.81, standoff -1.81, extent 145.76,224.41 169.21,248.04
3D body: height 21.81, standoff -1.81, extent 145.76,185.04 169.21,208.67
3D body: height 21.81, standoff -1.81, extent 145.76,145.67 169.21,169.3
3D body: height 21.81, standoff -1.81, extent 145.76,106.3 169.21,129.93
3D body: height 21.81, standoff -1.81, extent 145.76,66.93 169.21,90.56
3D body: height 21.81, standoff -1.81, extent 145.76,27.56 169.21,51.19
3D body: height 21.81, standoff -1.81, extent 145.76,-11.81 169.21,11.82
3D body: height 21.81, standoff -1.81, extent 145.76,-248.03 169.21,-224.4
3D body: height 21.81, standoff -1.81, extent 145.76,-208.66 169.21,-185.03
3D body: height 21.81, standoff -1.81, extent 145.76,-169.29 169.21,-145.66
3D body: height 21.81, standoff -1.81, extent 145.76,-129.92 169.21,-106.29
3D body: height 21.81, standoff -1.81, extent 145.76,-90.55 169.21,-66.92
3D body: height 21.81, standoff -1.81, extent 145.76,-51.18 169.21,-27.55
3D body: height 21.81, standoff -1.81, extent 185.13,224.41 208.58,248.04
3D body: height 21.81, standoff -1.81, extent 185.13,185.04 208.58,208.67
3D body: height 21.81, standoff -1.81, extent 185.13,145.67 208.58,169.3
3D body: height 21.81, standoff -1.81, extent 185.13,106.3 208.58,129.93
3D body: height 21.81, standoff -1.81, extent 185.13,66.93 208.58,90.56
3D body: height 21.81, standoff -1.81, extent 185.13,27.56 208.58,51.19
3D body: height 21.81, standoff -1.81, extent 185.13,-11.81 208.58,11.82
3D body: height 21.81, standoff -1.81, extent 185.13,-248.03 208.58,-224.4
3D body: height 21.81, standoff -1.81, extent 185.13,-208.66 208.58,-185.03
3D body: height 21.81, standoff -1.81, extent 185.13,-169.29 208.58,-145.66
3D body: height 21.81, standoff -1.81, extent 185.13,-129.92 208.58,-106.29
3D body: height 21.81, standoff -1.81, extent 185.13,-90.55 208.58,-66.92
3D body: height 21.81, standoff -1.81, extent 185.13,-51.18 208.58,-27.55
3D body: height 21.81, standoff -1.81, extent 224.5,224.41 247.95,248.04
3D body: height 21.81, standoff -1.81, extent 224.5,185.04 247.95,208.67
3D body: height 21.81, standoff -1.81, extent 224.5,145.67 247.95,169.3
3D body: height 21.81, standoff -1.81, extent 224.5,106.3 247.95,129.93
3D body: height 21.81, standoff -1.81, extent 224.5,66.93 247.95,90.56
3D body: height 21.81, standoff -1.81, extent 224.5,27.56 247.95,51.19
3D body: height 21.81, standoff -1.81, extent 224.5,-11.81 247.95,11.82
3D body: height 21.81, standoff -1.81, extent 224.5,-248.03 247.95,-224.4
3D body: height 21.81, standoff -1.81, extent 224.5,-208.66 247.95,-185.03
3D body: height 21.81, standoff -1.81, extent 224.5,-169.29 247.95,-145.66
3D body: height 21.81, standoff -1.81, extent 224.5,-129.92 247.95,-106.29
3D body: height 21.81, standoff -1.81, extent 224.5,-90.55 247.95,-66.92
3D body: height 21.81, standoff -1.81, extent 224.5,-51.18 247.95,-27.55